# EAGLE library part TLV2252IDR (library IntegratedLib)
LinCMOS AMPOP Low Power (SO-8)
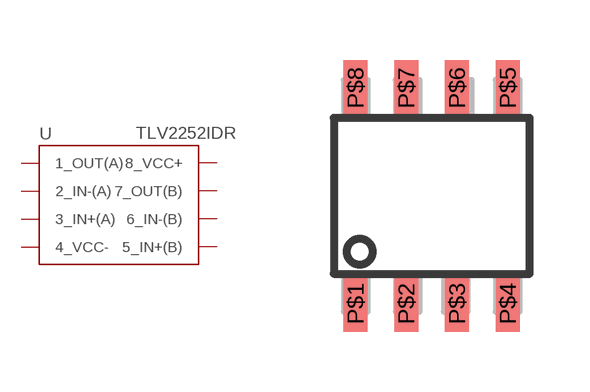
[diagram p1: symbol with the pads of SO-8N; footprint SO-8N]

Designator prefix U

## TLV2252IDR (FABRICANTE: TEXAS INSTRUMENTS; PARTNUMBER: TLV2252IDR; TIPO: CIRCUITO INTEGRADO)  [SO-8N]
P$1  1_OUT(A)
P$2  2_IN-(A)
P$3  3_IN+(A)
P$4  4_VCC-
P$5  5_IN+(B)
P$6  6_IN-(B)
P$7  7_OUT(B)
P$8  8_VCC+

## Footprint SO-8N (pad centres in mm)
smd 0.6 x 1.4: P$1 -1.905,-2.7; P$2 -0.635,-2.7; P$3 0.635,-2.7; P$4 1.905,-2.7; P$5 1.905,2.7; P$6 0.635,2.7; P$7 -0.635,2.7; P$8 -1.905,2.7